# EAGLE library part TLC5973 (library My_TI)
3-Channel, 12-Bit, PWM Constant-Current LED Driver with Single-Wire Interface (EasySet™)
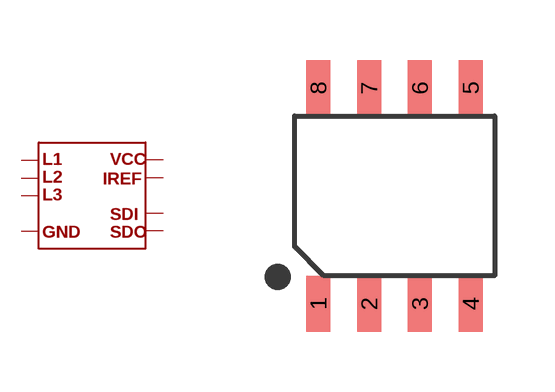
[diagram p11: symbol with the pads of SOIC8-1.27-5X4MM; footprint SOIC8-1.27-5X4MM]

Designator prefix LED_DR

## TLC5973  [SOIC8-1.27-5X4MM]
1  OUT
2  OUT
3  OUT
4  OUT
5  OUT
6  OUT
7  OUT
8  OUT

## Footprint SOIC8-1.27-5X4MM (pad centres in mm)
smd 0.6 x 1.4: 1 -1.905,-2.7; 2 -0.635,-2.7; 3 0.635,-2.7; 4 1.905,-2.7; 5 1.905,2.7; 6 0.635,2.7; 7 -0.635,2.7; 8 -1.905,2.7